# Altium footprint library pinhead.PCBLIB: 97 footprints (part 7 of 7)
Each footprint in its own frame and in the unit in brackets; x right, y up, seen from the top. Pads: shape width x height; smd on the part's side, far side on the other; paste and mask are expansions set on the pad; w line width, h text height; cw(c..) or ccw(c..) is an arc to the next point about the centre after c.
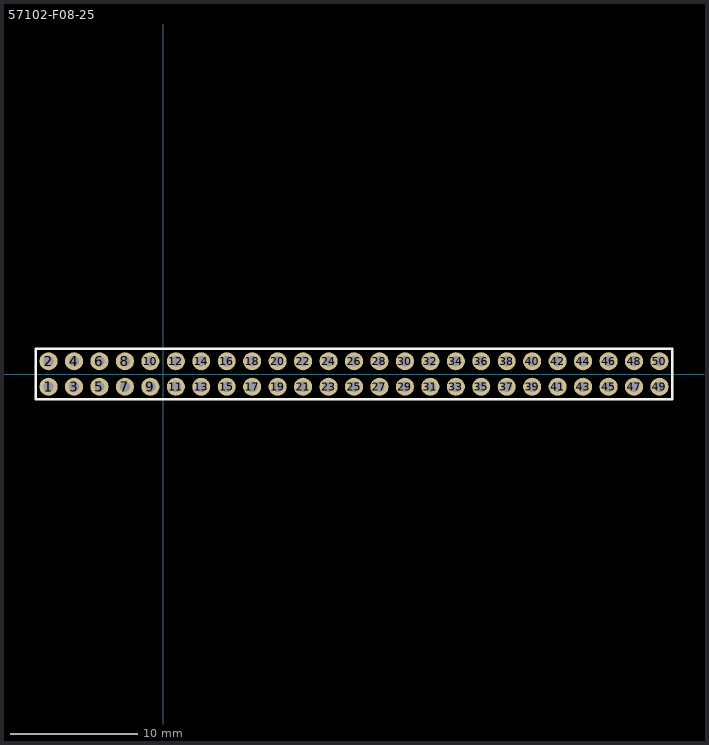
[diagram p6: the footprint, top view; thin cyan lines are the x and y axes]

## 57102-F08-25 [mil]
pads (50):
  round 56 hole 31.5: 1(-354.33,-39.37) 2(-354.33,39.37) 3(-275.59,-39.37) 4(-275.59,39.37) 5(-196.85,-39.37) 6(-196.85,39.37) 7(-118.11,-39.37) 8(-118.11,39.37) 9(-39.37,-39.37) 10(-39.37,39.37) 11(39.37,-39.37) 12(39.37,39.37) 13(118.11,-39.37) 14(118.11,39.37) 15(196.85,-39.37) 16(196.85,39.37) 17(275.59,-39.37) 18(275.59,39.37) 19(354.33,-39.37) 20(354.33,39.37) 21(433.07,-39.37) 22(433.07,39.37) 23(511.81,-39.37) 24(511.81,39.37) 25(590.55,-39.37) 26(590.55,39.37) 27(669.29,-39.37) 28(669.29,39.37) 29(748.03,-39.37) 30(748.03,39.37) 31(826.77,-39.37) 32(826.77,39.37) 33(905.51,-39.37) 34(905.51,39.37) 35(984.25,-39.37) 36(984.25,39.37) 37(1062.99,-39.37) 38(1062.99,39.37) 39(1141.73,-39.37) 40(1141.73,39.37) 41(1220.47,-39.37) 42(1220.47,39.37) 43(1299.21,-39.37) 44(1299.21,39.37) 45(1377.95,-39.37) 46(1377.95,39.37) 47(1456.69,-39.37) 48(1456.69,39.37) 49(1535.43,-39.37) 50(1535.43,39.37)
Top Overlay:
  lines w8: -393.7,-78.74 1574.8,-78.74 1574.8,78.74 -393.7,78.74 -393.7,-78.74